# EAGLE library part 66200621122 (library Wuerth_Elektronik_eiCan_08_Micro_Power_Connectors)
WR-MPC3 3.00mm Male Dual Row Vertical Header, 6 Pins
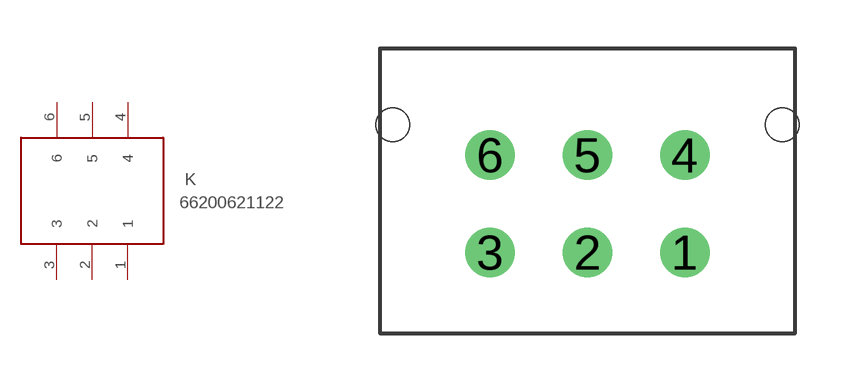
[diagram p0: symbol with the pads of 66200621122; footprint 66200621122]

Designator prefix K

## 66200621122  [66200621122]
1  1
2  2
3  3
4  4
5  5
6  6

## Footprint 66200621122 (pad centres in mm)
WR-MPC3-3.00mm Male Dual Row Vertical Header,6 pins
drill 1.02 round: 1 0,-1.5; 2 -3,-1.5; 3 -6,-1.5; 4 0,1.5; 5 -3,1.5; 6 -6,1.5
hole 1.02 at -9,2.44
hole 1.02 at 3,2.44